# Altium footprint library ESP.PcbLib: 9 footprints
Each footprint in its own frame and in the unit in brackets; x right, y up, seen from the top. Pads: shape width x height; smd on the part's side, far side on the other; paste and mask are expansions set on the pad; w line width, h text height; cw(c..) or ccw(c..) is an arc to the next point about the centre after c.
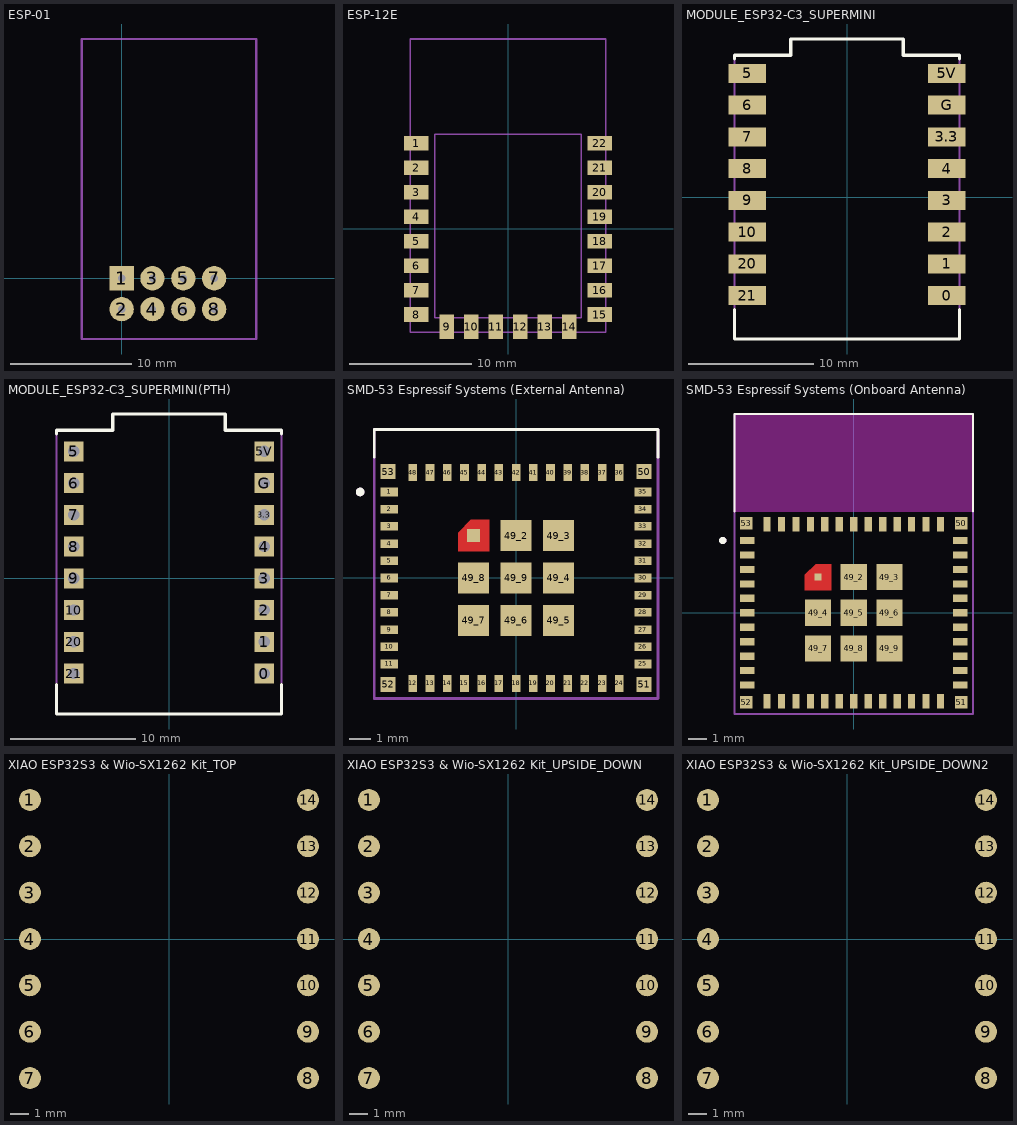
[diagram p0: the footprints below, top view; thin cyan lines are the x and y axes]

## ESP-01 [mm]
pads (8):
  rect 2x2 hole 0.6 paste-2539.97 mask+0: 1(0,0)
  round 2 hole 0.6 paste-2539.97 mask+0: 2(0,-2.54) 3(2.54,0) 4(2.54,-2.54) 5(5.08,0) 6(5.08,-2.54) 7(7.62,0) 8(7.62,-2.54)
Mechanical 1:
  lines w0.2: -3.3,-5 11.1,-5 11.1,19.7 -3.3,19.7 -3.3,-5

## ESP-12E [mm]
pads (22):
  rect 2x1.2 smd: 1(-7.5,7) 2(-7.5,5) 3(-7.5,3) 4(-7.5,1) 5(-7.5,-1) 6(-7.5,-3) 7(-7.5,-5) 8(-7.5,-7) 15(7.5,-7) 16(7.5,-5) 17(7.5,-3) 18(7.5,-1) 19(7.5,1) 20(7.5,3) 21(7.5,5) 22(7.5,7)
  rect 1.2x2 smd: 9(-5,-8) 10(-3,-8) 11(-1,-8) 12(1,-8) 13(3,-8) 14(5,-8)
Mechanical 13:
  lines w0.127: -8,-8.46 8,-8.46 8,15.54 -8,15.54 -8,-8.46 ; -6,-7.26 -6,7.74 6,7.74 6,-7.26 -6,-7.26
  text "Antenna" at -4.175,10.95 h1.27
3D body "step_temp.STEP": height 3, standoff 0, extent -8,-8.444 8,15.556

## MODULE_ESP32-C3_SUPERMINI [mm]
height 4.2
pads (16):
  rect 3.025x1.524 smd: 0(7.985,-7.88) 1(7.985,-5.34) 2(7.985,-2.8) 3(7.985,-0.26) 3.3(7.985,4.82) 4(7.985,2.28) 5(-7.985,9.9) 5V(7.985,9.9) 6(-7.985,7.36) 7(-7.985,4.82) 8(-7.985,2.28) 9(-7.985,-0.26) 10(-7.985,-2.8) 20(-7.985,-5.34) 21(-7.985,-7.88) G(7.985,7.36)
Top Overlay:
  lines w0.25: -9,-9 -9,-11.35 9,-11.35 9,-9 ; -9,11.05 -9,11.35 -4.5,11.35 -4.5,12.65 4.5,12.65 4.5,11.35 9,11.35 9,11.05
Mechanical 13:
  lines w0.127: -9,-11.35 -9,11.35 -4.5,11.35 -4.5,12.65 4.5,12.65 4.5,11.35 9,11.35 9,-11.35 -9,-11.35
3D body "ESP32-C3 SuperMini--3DModel-STEP-56544.STEP": height 4.16, standoff 0, extent -9,-11.35 9,12.65

## MODULE_ESP32-C3_SUPERMINI(PTH) [mm] "Welded with header 2.54mm"
height 4.2
pads (16):
  rect 1.6x1.6 hole 0.9: 0(7.62,-7.62) 1(7.62,-5.08) 2(7.62,-2.54) 3(7.62,0) 3.3(7.62,5.08) 4(7.62,2.54) 5(-7.62,10.16) 5V(7.62,10.16) 6(-7.62,7.62) 7(-7.62,5.08) 8(-7.62,2.54) 9(-7.62,0) 10(-7.62,-2.54) 20(-7.62,-5.08) 21(-7.62,-7.62) G(7.62,7.62)
Top Overlay:
  lines w0.25: -9,-8.5 -9,-10.85 9,-10.85 9,-8.5 ; -9,11.55 -9,11.85 -4.5,11.85 -4.5,13.15 4.5,13.15 4.5,11.85 9,11.85 9,11.55
Mechanical 13:
  lines w0.127: -9,-10.85 9,-10.85 9,11.85 4.5,11.85 4.5,13.15 -4.5,13.15 -4.5,11.85 -9,11.85 -9,-10.85
3D body "ESP32-C3 SuperMini--3DModel-STEP-56544.STEP": height 4.16, standoff 0, extent -9,-11.1 9,12.9

## SMD-53 Espressif Systems (External Antenna) [mm] "Acepted modules: / ESP32-C3-MINI-1U-N4 / ESP32-C6-MINI-1U-N4 /  / Antenna (not included): / Hirose W.FL / I-PEX MHF III (MHF3, IPEX3) / Amphenol AMMC"
height 2.55
pads (61):
  rect 0.8x0.4 smd: 1(-5.9,4) 2(-5.9,3.2) 3(-5.9,2.4) 4(-5.9,1.6) 5(-5.9,0.8) 6(-5.9,0) 7(-5.9,-0.8) 8(-5.9,-1.6) 9(-5.9,-2.4) 10(-5.9,-3.2) 11(-5.9,-4) 25(5.9,-4) 26(5.9,-3.2) 27(5.9,-2.4) 28(5.9,-1.6) 29(5.9,-0.8) 30(5.9,0) 31(5.9,0.8) 32(5.9,1.6) 33(5.9,2.4) 34(5.9,3.2) 35(5.9,4)
  rect 0.4x0.8 smd: 12(-4.8,-4.9) 13(-4,-4.9) 14(-3.2,-4.9) 15(-2.4,-4.9) 16(-1.6,-4.9) 17(-0.8,-4.9) 18(0,-4.9) 19(0.8,-4.9) 20(1.6,-4.9) 21(2.4,-4.9) 22(3.2,-4.9) 23(4,-4.9) 24(4.8,-4.9) 36(4.8,4.9) 37(4,4.9) 38(3.2,4.9) 39(2.4,4.9) 40(1.6,4.9) 41(0.8,4.9) 42(0,4.9) 43(-0.8,4.9) 44(-1.6,4.9) 45(-2.4,4.9) 46(-3.2,4.9) 47(-4,4.9) 48(-4.8,4.9)
  rect 0.6x0.6 smd paste-1 mask+0: 49_1(-1.975,1.975)
  rect 1.45x1.45 smd: 49_2(0,1.975) 49_3(1.975,1.975) 49_4(1.975,0) 49_5(1.975,-1.975) 49_6(0,-1.975) 49_7(-1.975,-1.975) 49_8(-1.975,0) 49_9(0,0)
  rect 0.7x0.7 smd: 50(5.95,4.95) 51(5.95,-4.95) 52(-5.95,-4.95) 53(-5.95,4.95)
Top Layer:
  region: -1.25,1.25 -2.7,1.25 -2.7,2.1 -2.1,2.7 -1.25,2.7
Top Overlay:
  circle w0.2: c-7.25,4 r0.1
  lines w0.127: -6.6,5.62 -6.6,6.9 6.6,6.9 6.6,5.62
Top Paste:
  region: -1.25,1.25 -2.7,1.25 -2.7,2.1 -2.1,2.7 -1.25,2.7
Top Solder:
  region: -1.15,1.15 -2.8,1.15 -2.8,2.14 -2.14,2.8 -1.15,2.8
Mechanical 13:
  circle w0.2: c-7.25,4 r0.1
  lines w0.127: -6.6,-5.6 -6.6,6.9 6.6,6.9 6.6,-5.6 -6.6,-5.6
3D body "step_temp.STEP": height 2.55, standoff 0, extent -6.6,-5.6 6.6,6.9

## SMD-53 Espressif Systems (Onboard Antenna) [mm] "Acepted modules: / ESP32-C3-MINI-1-N4 / ESP32-C6-MINI-1-N4"
height 2.55
pads (61):
  rect 0.8x0.4 smd: 1(-5.9,4) 2(-5.9,3.2) 3(-5.9,2.4) 4(-5.9,1.6) 5(-5.9,0.8) 6(-5.9,0) 7(-5.9,-0.8) 8(-5.9,-1.6) 9(-5.9,-2.4) 10(-5.9,-3.2) 11(-5.9,-4) 25(5.9,-4) 26(5.9,-3.2) 27(5.9,-2.4) 28(5.9,-1.6) 29(5.9,-0.8) 30(5.9,0) 31(5.9,0.8) 32(5.9,1.6) 33(5.9,2.4) 34(5.9,3.2) 35(5.9,4)
  rect 0.4x0.8 smd: 12(-4.8,-4.9) 13(-4,-4.9) 14(-3.2,-4.9) 15(-2.4,-4.9) 16(-1.6,-4.9) 17(-0.8,-4.9) 18(0,-4.9) 19(0.8,-4.9) 20(1.6,-4.9) 21(2.4,-4.9) 22(3.2,-4.9) 23(4,-4.9) 24(4.8,-4.9) 36(4.8,4.9) 37(4,4.9) 38(3.2,4.9) 39(2.4,4.9) 40(1.6,4.9) 41(0.8,4.9) 42(0,4.9) 43(-0.8,4.9) 44(-1.6,4.9) 45(-2.4,4.9) 46(-3.2,4.9) 47(-4,4.9) 48(-4.8,4.9)
  rect 0.4x0.4 smd paste-1 mask+0: 49_1(-1.975,1.975)
  rect 1.45x1.45 smd: 49_2(0,1.975) 49_3(1.975,1.975) 49_4(-1.975,0) 49_5(0,0) 49_6(1.975,0) 49_7(-1.975,-1.975) 49_8(0,-1.975) 49_9(1.975,-1.975)
  rect 0.7x0.7 smd: 50(5.95,4.95) 51(5.95,-4.95) 52(-5.95,-4.95) 53(-5.95,4.95)
Top Layer:
  region: -1.25,1.25 -2.7,1.25 -2.7,2.1 -2.1,2.7 -1.25,2.7
Top Overlay:
  circle w0.2: c-7.25,4 r0.1
  lines w0.127: -6.6,5.62 -6.6,11 6.6,11 6.6,5.62
Top Paste:
  region: -1.25,1.25 -2.7,1.25 -2.7,2.1 -2.1,2.7 -1.25,2.7
Top Solder:
  region: -1.15,1.15 -2.8,1.15 -2.8,2.15 -2.15,2.8 -1.15,2.8
Keep-Out Layer:
  region: 6.6,5.6 -6.6,5.6 -6.6,11 6.6,11
Mechanical 13:
  circle w0.2: c-7.25,4 r0.1
  lines w0.127: -6.6,-5.6 6.6,-5.6 6.6,11 -6.6,11 -6.6,-5.6
3D body "step_temp.STEP": height 2.55, standoff 0, extent -6.6,-5.6 6.6,11

## XIAO ESP32S3 & Wio-SX1262 Kit_TOP [mm] "2.54 mm pitch TH footprint / Classic position*"
pads (14):
  round 1.2 smd: 1(-7.62,7.62) 2(-7.62,5.08) 3(-7.62,2.54) 4(-7.62,0) 5(-7.62,-2.54) 6(-7.62,-5.08) 7(-7.62,-7.62) 8(7.62,-7.62) 9(7.62,-5.08) 10(7.62,-2.54) 11(7.62,0) 12(7.62,2.54) 13(7.62,5.08) 14(7.62,7.62)
3D body "XIAO-ESP32S3 v2.step": height 4.46, standoff 0, extent -8.89,-12.068 8.89,10.414
3D body "Wio-SX1262_for_XIAO_3D_file.step": height 8.55, standoff 1.25, extent -8.89,-10.543 8.89,10.897

## XIAO ESP32S3 & Wio-SX1262 Kit_UPSIDE_DOWN [mm] "2.54 mm pitch TH footprint / UPSIDE*"
pads (14):
  round 1.2 smd: 1(-7.62,7.62) 2(-7.62,5.08) 3(-7.62,2.54) 4(-7.62,0) 5(-7.62,-2.54) 6(-7.62,-5.08) 7(-7.62,-7.62) 8(7.62,-7.62) 9(7.62,-5.08) 10(7.62,-2.54) 11(7.62,0) 12(7.62,2.54) 13(7.62,5.08) 14(7.62,7.62)
3D body "Wio-SX1262_for_XIAO_3D_file.step": height 3.8, standoff -3.5, extent -8.89,-10.543 8.89,10.897
3D body "XIAO-ESP32S3 v2.step": height -0.29, standoff -4.75, extent -8.89,-12.068 8.89,10.414

## XIAO ESP32S3 & Wio-SX1262 Kit_UPSIDE_DOWN2 [mm] "2.54 mm pitch TH footprint / UPSIDE-2*"
pads (14):
  round 1.2 smd: 1(-7.62,7.62) 2(-7.62,5.08) 3(-7.62,2.54) 4(-7.62,0) 5(-7.62,-2.54) 6(-7.62,-5.08) 7(-7.62,-7.62) 8(7.62,-7.62) 9(7.62,-5.08) 10(7.62,-2.54) 11(7.62,0) 12(7.62,2.54) 13(7.62,5.08) 14(7.62,7.62)
3D body "XIAO-ESP32S3 v2.step": height 6.35, standoff 1.89, extent -8.89,-10.49 8.89,11.992
3D body "Wio-SX1262_for_XIAO_3D_file.step": height 5.1, standoff -2.2, extent -8.89,-10.924 8.89,10.516